# Altium schematic symbol library onsemi.SchLib: 4 symbols
Pins are listed as number, name and electrical type; pins without a type are passive.

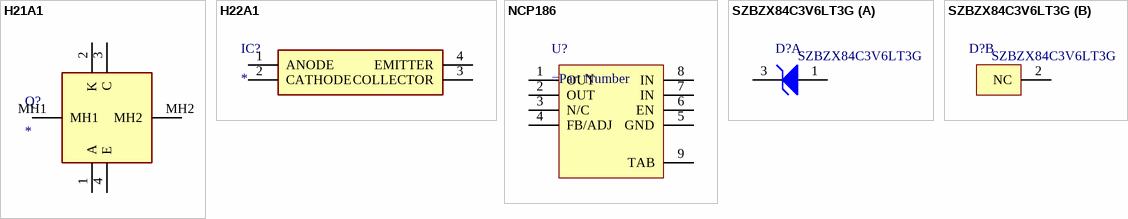
[diagram p0: symbols H21A1 to SZBZX84C3V6LT3G]

## H21A1
designator Q?
Phototransistor; Manufacturer_Name: onsemi; Manufacturer_Part_Number: H21A1; Datasheet Link: http://media.digikey.com/pdf/Data%20Sheets/Fairchild%20PDFs/H21A1,2,3.pdf; Height: 11mm; Mouser Part Number: 512-H21A1; Mouser Price/Stock: https://www.mouser.co.uk/ProductDetail/onsemi-Fairchild/H21A1?qs=N6oOniiA2U7vryAcAetCPg%3D%3D
pins: 1 A, 2 K, 3 C, 4 E, MH1, MH2

## H22A1
designator IC?
Integrated Circuit; Manufacturer_Name: Isocom; Manufacturer_Part_Number: H22A1; Datasheet Link: http://isocom.com/wp-content/uploads/2017/09/DD93222-H21Ax_H22Ax-100817.pdf; Height: 10mm; Arrow Part Number: H22A1; Arrow Price/Stock: https://www.arrow.com/en/products/h22a1/isocom?region=nac
footprint H22A1
pins: 1 ANODE, 2 CATHODE, 3 COLLECTOR, 4 EMITTER

## NCP186
designator U?
pins: 1 OUT, 2 OUT, 3 N/C, 4 FB/ADJ, 5 GND, 6 EN, 7 IN, 8 IN, 9 TAB

## SZBZX84C3V6LT3G
designator D?
Zener Voltage Regulator, 225 mW, 3-Pin SOT-23, Pb-Free, Tape and Reel
part A pins: 1 A, 3 K
part B pins: 2 NC